# Altium schematic symbol library DCJ200-10-A-XX-X.Schlib: 1 symbol
Pins are listed as number, name and electrical type; pins without a type are passive.

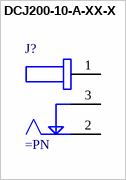
[diagram p0: symbol DCJ200-10-A-XX-X]

## DCJ200-10-A-XX-X
designator J?
Power Barrel Connector Jack, Through Hole, Right Angle
pins: 1, 2, 3